# EAGLE library part 1862068 (library 1862068)
Fixed Terminal Blocks SPTAF 1/ 4-3,5-EL Source: Datasheet <https://www.arrow.com/en/products/1862068/phoenix-contact>
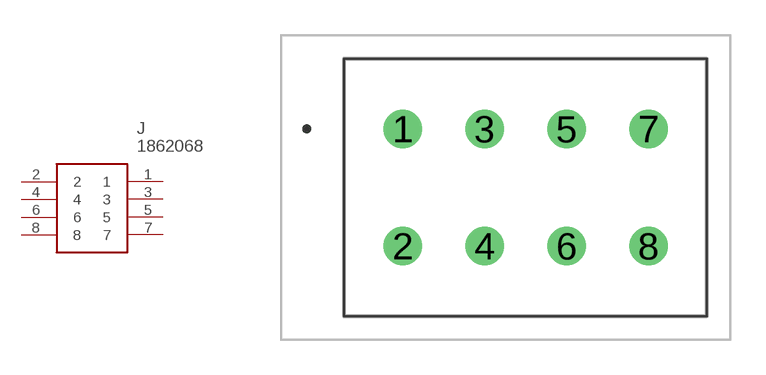
[diagram p0: symbol with the pads of 1862068; footprint 1862068]

Designator prefix J

## 1862068 (Description: Fixed Terminal Blocks SPTAF 1/ 4-3,5-EL; Height: 10.2mm; Manufacturer_Name: Phoenix Contact; Manufacturer_Part_Number: 1862068; Mouser_Part_Number: 651-1862068; Mouser_Price-Stock: https://www.mouser.co.uk/ProductDetail/Phoenix-Contact/1862068?qs=tlR8i4ZVbUc%2F8QHSz36BSA%3D%3D)  [1862068]
1  1
2  2
3  3
4  4
5  5
6  6
7  7
8  8

## Footprint 1862068 (pad centres in mm)
1862068-1
drill 1.1 pad 1.65: 1 0,0; 2 0,-5; 3 3.5,0; 4 3.5,-5; 5 7,0; 6 7,-5; 7 10.5,0; 8 10.5,-5